# EAGLE library part 139 (library allegro_magnetichall)
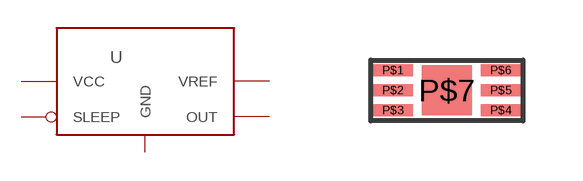
[diagram p0: symbol with the pads of EH6; footprint EH6]

Designator prefix -

## 1395  [EH6]
P$1  VCC  pwr
P$2  OUT  pwr
P$3  GND1  pwr
P$4  GND2  pwr
P$5  SLEEP
P$6  VREF  pwr
P$7  GND  pwr

## Footprint EH6 (pad centres in mm)
smd 1 x 0.3: P$1 -1.35,0.5; P$2 -1.35,0; P$3 -1.35,-0.5; P$4 1.35,-0.5; P$5 1.35,0; P$6 1.35,0.5
smd 1.25 x 1.25: P$7 0,0